# Altium integrated library TI Microcontroller MSP430 16-bit Ultra-Low Power.IntLib: 1463 symbols (part 67 of 130)
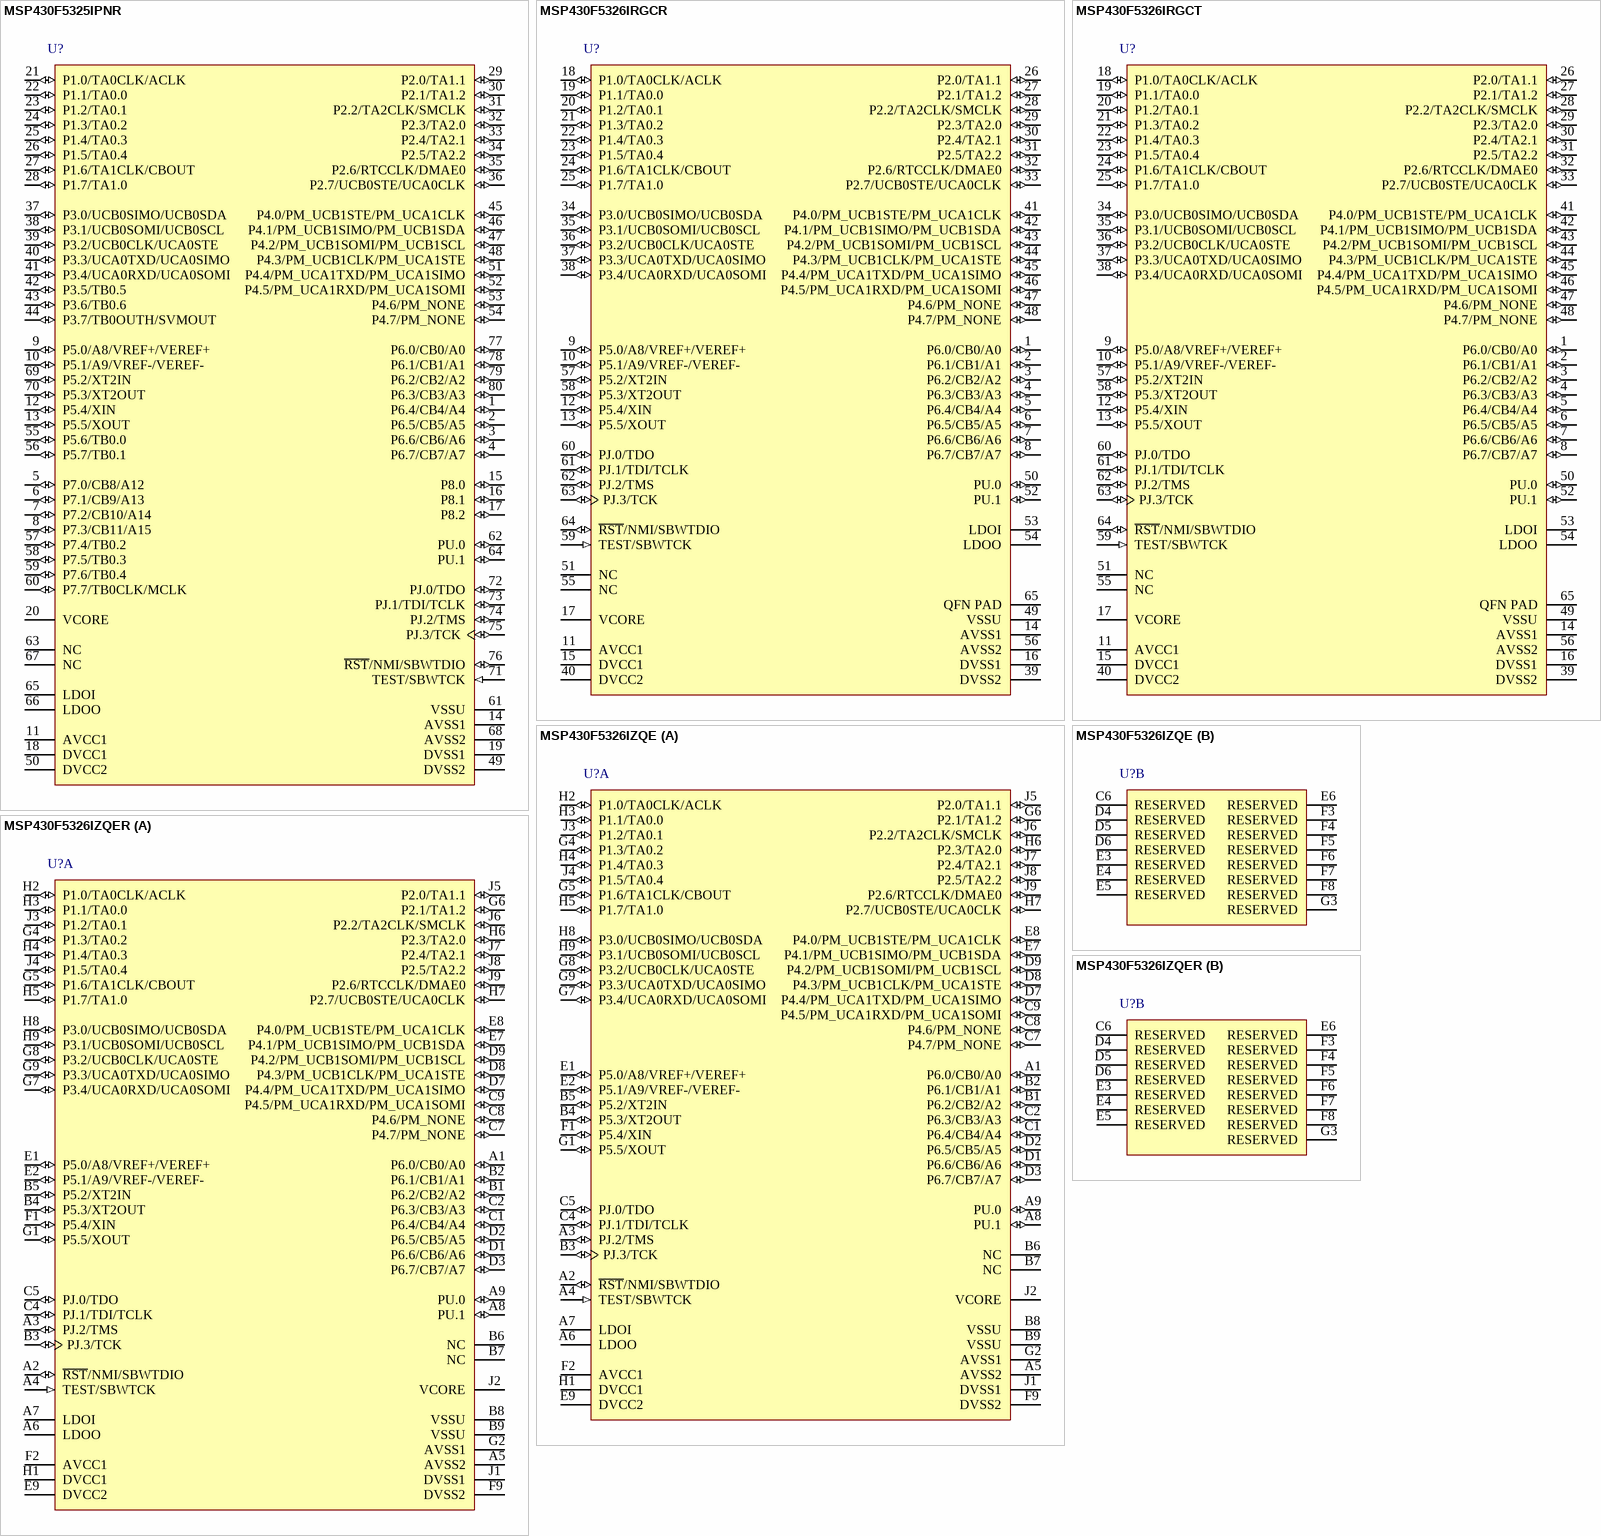
[diagram p269: symbols MSP430F5325IPNR to MSP430F5326IZQER]

## MSP430F5325IPNR
designator U?
25 MHz Mixed Signal Microcontroller with 64 KB Flash, 6144 B SRAM and 63 GPIOs, 80-pin QFP (PN), Green (RoHS & no Sb/Br); Manufacturer: Texas Instruments; PartNumber: MSP430F5325IPNR; ADC: 12-bit SAR; ADC Channels: 16; Brown Out Reset: Yes; DMA: 3; Flash(KB): 64; Frequency(MHz): 25; GPIO: 63; Multiplier: 32x32; SRAM(B): 6144; SubFamily: 5 Series; Timers - 16-bit: 4; USCI_A (UART/LIN/IrDA/SPI): 2; DatasheetVersion: SLAS678C; PackageReference: PN80; PackageDescription: 80-Pin Plastic Quad Flat Pack, Body 12 x 12 mm, Pitch 0.5 mm; Supplier 1: Digi-Key; Supplier Part Number 1: MSP430F5325IPN-ND; Supplier 2: Newark; Supplier Part Number 2: 27W9599; Supplier 3: Mouser; Supplier Part Number 3: 595-MSP430F5325IPN; Comparators: Yes; Eco-Plan: Green (RoHS & no Sb/Br); Real-Time Clock: Yes; SVS: Yes; Temp Sensor: Yes; USCI_B (I2C & SPI): 2; Watchdog: Yes; Mounting Technology: Surface Mount; Code_JEDEC: MS-018; ComponentLink1Description: Manufacturer URL; ComponentLink1URL: http://www.ti.com/; ComponentLink2Description: Datasheet; ComponentLink2URL: http://www.ti.com/general/docs/lit/getliterature.tsp?genericPartNumber=MSP430F5325&fileType=pdf; ComponentLink3Description: Package Specification; ComponentLink3URL: http://www.ti.com/lit/ml/mtqf010a/mtqf010a.pdf
footprint TI-PN80_N (QFP, 80-Leads, Body 12x12mm, Pitch 0.5mm, IPC Medium Density)
pins: 1 P6.4/CB4/A4 (io), 2 P6.5/CB5/A5 (io), 3 P6.6/CB6/A6 (io), 4 P6.7/CB7/A7 (io), 5 P7.0/CB8/A12 (io), 6 P7.1/CB9/A13 (io), 7 P7.2/CB10/A14 (io), 8 P7.3/CB11/A15 (io), 9 P5.0/A8/VREF+/VEREF+ (io), 10 P5.1/A9/VREF-/VEREF- (io), 11 AVCC1 (power) "Analog power supply", 12 P5.4/XIN (io), 13 P5.5/XOUT (io), 14 AVSS1 (power) "Analog ground supply", 15 P8.0 (io) "General-purpose digital I/O", 16 P8.1 (io) "General-purpose digital I/O", 17 P8.2 (io) "General-purpose digital I/O", 18 DVCC1 (power) "Digital power supply", 19 DVSS1 (power) "Digital ground supply", 20 VCORE "Regulated core power supply output (internal usage only, no external current loading)", 21 P1.0/TA0CLK/ACLK (io), 22 P1.1/TA0.0 (io), 23 P1.2/TA0.1 (io), 24 P1.3/TA0.2 (io), 25 P1.4/TA0.3 (io), 26 P1.5/TA0.4 (io), 27 P1.6/TA1CLK/CBOUT (io), 28 P1.7/TA1.0 (io), 29 P2.0/TA1.1 (io), 30 P2.1/TA1.2 (io), 31 P2.2/TA2CLK/SMCLK (io), 32 P2.3/TA2.0 (io), 33 P2.4/TA2.1 (io), 34 P2.5/TA2.2 (io), 35 P2.6/RTCCLK/DMAE0 (io), 36 P2.7/UCB0STE/UCA0CLK (io), 37 P3.0/UCB0SIMO/UCB0SDA (io), 38 P3.1/UCB0SOMI/UCB0SCL (io), 39 P3.2/UCB0CLK/UCA0STE (io), 40 P3.3/UCA0TXD/UCA0SIMO (io), 41 P3.4/UCA0RXD/UCA0SOMI (io), 42 P3.5/TB0.5 (io), 43 P3.6/TB0.6 (io), 44 P3.7/TB0OUTH/SVMOUT (io), 45 P4.0/PM_UCB1STE/PM_UCA1CLK (io), 46 P4.1/PM_UCB1SIMO/PM_UCB1SDA (io), 47 P4.2/PM_UCB1SOMI/PM_UCB1SCL (io), 48 P4.3/PM_UCB1CLK/PM_UCA1STE (io), 49 DVSS2 (power) "Digital ground supply", 50 DVCC2 (power) "Digital power supply", 51 P4.4/PM_UCA1TXD/PM_UCA1SIMO (io), 52 P4.5/PM_UCA1RXD/PM_UCA1SOMI (io), 53 P4.6/PM_NONE (io), 54 P4.7/PM_NONE (io), 55 P5.6/TB0.0 (io), 56 P5.7/TB0.1 (io), 57 P7.4/TB0.2 (io), 58 P7.5/TB0.3 (io), 59 P7.6/TB0.4 (io), 60 P7.7/TB0CLK/MCLK (io), 61 VSSU (power) "PU ground supply", 62 PU.0 (io) "General-purpose digital I/O - controlled by PU control register", 63 NC "No connect", 64 PU.1 (io) "General-purpose digital I/O - controlled by PU control register", 65 LDOI (power) "LDO input", 66 LDOO (power) "LDO output", 67 NC "No connect", 68 AVSS2 (power) "Analog ground supply", 69 P5.2/XT2IN (io), 70 P5.3/XT2OUT (io), 71 TEST/SBWTCK (in), 72 PJ.0/TDO (io), 73 PJ.1/TDI/TCLK (io), 74 PJ.2/TMS (io), 75 PJ.3/TCK (io), 76 ~{RST}/NMI/SBWTDIO (io), 77 P6.0/CB0/A0 (io), 78 P6.1/CB1/A1 (io), 79 P6.2/CB2/A2 (io), 80 P6.3/CB3/A3 (io)

## MSP430F5326IRGCR
designator U?
25 MHz Mixed Signal Microcontroller with 96 KB Flash, 8192 B SRAM and 48 GPIOs, 64-pin QFN (RGC), Green (RoHS & no Sb/Br); Manufacturer: Texas Instruments; PartNumber: MSP430F5326IRGCR; ADC: 12-bit SAR; ADC Channels: 16; Brown Out Reset: Yes; DMA: 3; Flash(KB): 96; Frequency(MHz): 25; GPIO: 48; Multiplier: 32x32; SRAM(B): 8192; SubFamily: 5 Series; Timers - 16-bit: 4; USCI_A (UART/LIN/IrDA/SPI): 2; DatasheetVersion: SLAS678C; PackageVersion: 4204106/F; PackageReference: RGC64; PackageDescription: 64-Pin Plastic Flat Pack, Body 9 x 9 mm, Pitch 0.5 mm; Supplier 1: Digi-Key; Supplier Part Number 1: 296-29796-2-ND; Supplier 2: Digi-Key; Supplier Part Number 2: 296-29796-1-ND; Supplier 3: Digi-Key; Supplier Part Number 3: 296-29796-6-ND; Supplier 4: Newark; Supplier Part Number 4: 71T4221; Supplier 5: Mouser; Supplier Part Number 5: 595-MSP430F5325IPNR; Comparators: Yes; Eco-Plan: Green (RoHS & no Sb/Br); Real-Time Clock: Yes; SVS: Yes; Temp Sensor: Yes; USCI_B (I2C & SPI): 2; Watchdog: Yes; Mounting Technology: Surface Mount; ComponentLink1Description: Manufacturer URL; ComponentLink1URL: http://www.ti.com/; ComponentLink2Description: Datasheet; ComponentLink2URL: http://www.ti.com/general/docs/lit/getliterature.tsp?genericPartNumber=MSP430F5326&fileType=pdf; ComponentLink3Description: Package Specification; ComponentLink3URL: http://www.ti.com/lit/ds/symlink/ucd3138.pdf
footprint TI-RGC64-4250X4250TP_N (QFN, 64-Leads, Body 9x9mm, Pitch 0.5mm, Thermal Pad 4.25x4.25mm, IPC Medium Density)
pins: 1 P6.0/CB0/A0 (io), 2 P6.1/CB1/A1 (io), 3 P6.2/CB2/A2 (io), 4 P6.3/CB3/A3 (io), 5 P6.4/CB4/A4 (io), 6 P6.5/CB5/A5 (io), 7 P6.6/CB6/A6 (io), 8 P6.7/CB7/A7 (io), 9 P5.0/A8/VREF+/VEREF+ (io), 10 P5.1/A9/VREF-/VEREF- (io), 11 AVCC1 (power) "Analog power supply", 12 P5.4/XIN (io), 13 P5.5/XOUT (io), 14 AVSS1 (power) "Analog ground supply", 15 DVCC1 (power) "Digital power supply", 16 DVSS1 (power) "Digital ground supply", 17 VCORE "Regulated core power supply output (internal use only, no external current loading)", 18 P1.0/TA0CLK/ACLK (io), 19 P1.1/TA0.0 (io), 20 P1.2/TA0.1 (io), 21 P1.3/TA0.2 (io), 22 P1.4/TA0.3 (io), 23 P1.5/TA0.4 (io), 24 P1.6/TA1CLK/CBOUT (io), 25 P1.7/TA1.0 (io), 26 P2.0/TA1.1 (io), 27 P2.1/TA1.2 (io), 28 P2.2/TA2CLK/SMCLK (io), 29 P2.3/TA2.0 (io), 30 P2.4/TA2.1 (io), 31 P2.5/TA2.2 (io), 32 P2.6/RTCCLK/DMAE0 (io), 33 P2.7/UCB0STE/UCA0CLK (io), 34 P3.0/UCB0SIMO/UCB0SDA (io), 35 P3.1/UCB0SOMI/UCB0SCL (io), 36 P3.2/UCB0CLK/UCA0STE (io), 37 P3.3/UCA0TXD/UCA0SIMO (io), 38 P3.4/UCA0RXD/UCA0SOMI (io), 39 DVSS2 (power) "Digital ground supply", 40 DVCC2 (power) "Digital power supply", 41 P4.0/PM_UCB1STE/PM_UCA1CLK (io), 42 P4.1/PM_UCB1SIMO/PM_UCB1SDA (io), 43 P4.2/PM_UCB1SOMI/PM_UCB1SCL (io), 44 P4.3/PM_UCB1CLK/PM_UCA1STE (io), 45 P4.4/PM_UCA1TXD/PM_UCA1SIMO (io), 46 P4.5/PM_UCA1RXD/PM_UCA1SOMI (io), 47 P4.6/PM_NONE (io), 48 P4.7/PM_NONE (io), 49 VSSU (power) "USB PHY ground supply", 50 PU.0 (io) "General-purpose digital I/O - controlled by PU control register", 51 NC "No connect.", 52 PU.1 (io) "General-purpose digital I/O - controlled by PU control register", 53 LDOI (power) "LDO input", 54 LDOO (power) "LDO output", 55 NC "No connect.", 56 AVSS2 (power) "Analog ground supply", 57 P5.2/XT2IN (io), 58 P5.3/XT2OUT (io), 59 TEST/SBWTCK (in), 60 PJ.0/TDO (io), 61 PJ.1/TDI/TCLK (io), 62 PJ.2/TMS (io), 63 PJ.3/TCK (io), 64 ~{RST}/NMI/SBWTDIO (io), 65 QFN PAD (power) "QFN package pad connection to VSS recommended"

## MSP430F5326IRGCT
designator U?
25 MHz Mixed Signal Microcontroller with 96 KB Flash, 8192 B SRAM and 48 GPIOs, 64-pin QFN (RGC), Green (RoHS & no Sb/Br); Manufacturer: Texas Instruments; PartNumber: MSP430F5326IRGCT; ADC: 12-bit SAR; ADC Channels: 16; Brown Out Reset: Yes; DMA: 3; Flash(KB): 96; Frequency(MHz): 25; GPIO: 48; Multiplier: 32x32; SRAM(B): 8192; SubFamily: 5 Series; Timers - 16-bit: 4; USCI_A (UART/LIN/IrDA/SPI): 2; DatasheetVersion: SLAS678C; PackageVersion: 4204106/F; PackageReference: RGC64; PackageDescription: 64-Pin Plastic Flat Pack, Body 9 x 9 mm, Pitch 0.5 mm; Supplier 1: Digi-Key; Supplier Part Number 1: 296-29797-2-ND; Supplier 2: Digi-Key; Supplier Part Number 2: 296-29797-1-ND; Supplier 3: Digi-Key; Supplier Part Number 3: 296-29797-6-ND; Supplier 4: Newark; Supplier Part Number 4: 71T4222; Supplier 5: Mouser; Supplier Part Number 5: 595-MSP430F5326IRGCR; Comparators: Yes; Eco-Plan: Green (RoHS & no Sb/Br); Real-Time Clock: Yes; SVS: Yes; Temp Sensor: Yes; USCI_B (I2C & SPI): 2; Watchdog: Yes; Mounting Technology: Surface Mount; ComponentLink1Description: Manufacturer URL; ComponentLink1URL: http://www.ti.com/; ComponentLink2Description: Datasheet; ComponentLink2URL: http://www.ti.com/general/docs/lit/getliterature.tsp?genericPartNumber=MSP430F5326&fileType=pdf; ComponentLink3Description: Package Specification; ComponentLink3URL: http://www.ti.com/lit/ds/symlink/ucd3138.pdf
footprint TI-RGC64-4250X4250TP_N (QFN, 64-Leads, Body 9x9mm, Pitch 0.5mm, Thermal Pad 4.25x4.25mm, IPC Medium Density)
pins: 1 P6.0/CB0/A0 (io), 2 P6.1/CB1/A1 (io), 3 P6.2/CB2/A2 (io), 4 P6.3/CB3/A3 (io), 5 P6.4/CB4/A4 (io), 6 P6.5/CB5/A5 (io), 7 P6.6/CB6/A6 (io), 8 P6.7/CB7/A7 (io), 9 P5.0/A8/VREF+/VEREF+ (io), 10 P5.1/A9/VREF-/VEREF- (io), 11 AVCC1 (power) "Analog power supply", 12 P5.4/XIN (io), 13 P5.5/XOUT (io), 14 AVSS1 (power) "Analog ground supply", 15 DVCC1 (power) "Digital power supply", 16 DVSS1 (power) "Digital ground supply", 17 VCORE "Regulated core power supply output (internal use only, no external current loading)", 18 P1.0/TA0CLK/ACLK (io), 19 P1.1/TA0.0 (io), 20 P1.2/TA0.1 (io), 21 P1.3/TA0.2 (io), 22 P1.4/TA0.3 (io), 23 P1.5/TA0.4 (io), 24 P1.6/TA1CLK/CBOUT (io), 25 P1.7/TA1.0 (io), 26 P2.0/TA1.1 (io), 27 P2.1/TA1.2 (io), 28 P2.2/TA2CLK/SMCLK (io), 29 P2.3/TA2.0 (io), 30 P2.4/TA2.1 (io), 31 P2.5/TA2.2 (io), 32 P2.6/RTCCLK/DMAE0 (io), 33 P2.7/UCB0STE/UCA0CLK (io), 34 P3.0/UCB0SIMO/UCB0SDA (io), 35 P3.1/UCB0SOMI/UCB0SCL (io), 36 P3.2/UCB0CLK/UCA0STE (io), 37 P3.3/UCA0TXD/UCA0SIMO (io), 38 P3.4/UCA0RXD/UCA0SOMI (io), 39 DVSS2 (power) "Digital ground supply", 40 DVCC2 (power) "Digital power supply", 41 P4.0/PM_UCB1STE/PM_UCA1CLK (io), 42 P4.1/PM_UCB1SIMO/PM_UCB1SDA (io), 43 P4.2/PM_UCB1SOMI/PM_UCB1SCL (io), 44 P4.3/PM_UCB1CLK/PM_UCA1STE (io), 45 P4.4/PM_UCA1TXD/PM_UCA1SIMO (io), 46 P4.5/PM_UCA1RXD/PM_UCA1SOMI (io), 47 P4.6/PM_NONE (io), 48 P4.7/PM_NONE (io), 49 VSSU (power) "USB PHY ground supply", 50 PU.0 (io) "General-purpose digital I/O - controlled by PU control register", 51 NC "No connect.", 52 PU.1 (io) "General-purpose digital I/O - controlled by PU control register", 53 LDOI (power) "LDO input", 54 LDOO (power) "LDO output", 55 NC "No connect.", 56 AVSS2 (power) "Analog ground supply", 57 P5.2/XT2IN (io), 58 P5.3/XT2OUT (io), 59 TEST/SBWTCK (in), 60 PJ.0/TDO (io), 61 PJ.1/TDI/TCLK (io), 62 PJ.2/TMS (io), 63 PJ.3/TCK (io), 64 ~{RST}/NMI/SBWTDIO (io), 65 QFN PAD (power) "QFN package pad connection to VSS recommended"

## MSP430F5326IZQE
designator U?
25 MHz Mixed Signal Microcontroller with 96 KB Flash, 8192 B SRAM and 48 GPIOs, -40 to 85 degC, 80-pin BGA (ZQE), Green (RoHS & no Sb/Br); Manufacturer: Texas Instruments; PartNumber: MSP430F5326IZQE; ADC: 12-bit SAR; ADC Channels: 16; Brown Out Reset: Yes; DMA: 3; Flash(KB): 96; Frequency(MHz): 25; GPIO: 48; Multiplier: 32x32; SRAM(B): 8192; SubFamily: 5 Series; Timers - 16-bit: 4; USCI_A (UART/LIN/IrDA/SPI): 2; DatasheetVersion: SLAS678C; PackageVersion: 4204334-6/G; PackageReference: ZQE80; PackageDescription: 80-Pin Plastic Ball Grid Array, Body 5 x 5 mm, Pitch 0.5 mm; Supplier 1: Mouser; Supplier Part Number 1: N/A; Comparators: Yes; Eco-Plan: Green (RoHS & no Sb/Br); Real-Time Clock: Yes; SVS: Yes; Temp Sensor: Yes; USCI_B (I2C & SPI): 2; Watchdog: Yes; Mounting Technology: Surface Mount; Code_JEDEC: MO-225; ComponentLink1Description: Manufacturer URL; ComponentLink1URL: http://www.ti.com/; ComponentLink2Description: Datasheet; ComponentLink2URL: http://www.ti.com/general/docs/lit/getliterature.tsp?genericPartNumber=MSP430F5326&fileType=pdf; ComponentLink3Description: Package Specification; ComponentLink3URL: http://www.ti.com/litv/pdf/mpbg269e
footprint TI-ZQE80 (BGA, 80-Balls, Body 5x5mm, Pitch 0.5mm)
part A pins: A1 P6.0/CB0/A0 (io), A2 ~{RST}/NMI/SBWTDIO (io), A3 PJ.2/TMS (io), A4 TEST/SBWTCK (in), A5 AVSS2 (power) "Analog ground supply", A6 LDOO (power) "LDO output", A7 LDOI (power) "LDO input", A8 PU.1 (io) "General-purpose digital I/O - controlled by PU control register", A9 PU.0 (io) "General-purpose digital I/O - controlled by PU control register", B1 P6.2/CB2/A2 (io), B2 P6.1/CB1/A1 (io), B3 PJ.3/TCK (io), B4 P5.3/XT2OUT (io), B5 P5.2/XT2IN (io), B6 NC "No connect", B7 NC "No connect", B8 VSSU (power) "PU ground supply", B9 VSSU (power) "PU ground supply", C1 P6.4/CB4/A4 (io), C2 P6.3/CB3/A3 (io), C4 PJ.1/TDI/TCLK (io), C5 PJ.0/TDO (io), C7 P4.7/PM_NONE (io), C8 P4.6/PM_NONE (io), C9 P4.5/PM_UCA1RXD/PM_UCA1SOMI (io), D1 P6.6/CB6/A6 (io), D2 P6.5/CB5/A5 (io), D3 P6.7/CB7/A7 (io), D7 P4.4/PM_UCA1TXD/PM_UCA1SIMO (io), D8 P4.3/PM_UCB1CLK/PM_UCA1STE (io), D9 P4.2/PM_UCB1SOMI/PM_UCB1SCL (io), E1 P5.0/A8/VREF+/VEREF+ (io), E2 P5.1/A9/VREF-/VEREF- (io), E7 P4.1/PM_UCB1SIMO/PM_UCB1SDA (io), E8 P4.0/PM_UCB1STE/PM_UCA1CLK (io), E9 DVCC2 (power) "Digital power supply", F1 P5.4/XIN (io), F2 AVCC1 (power) "Analog power supply", F9 DVSS2 (power) "Digital ground supply", G1 P5.5/XOUT (io), G2 AVSS1 (power) "Analog ground supply", G4 P1.3/TA0.2 (io), G5 P1.6/TA1CLK/CBOUT (io), G6 P2.1/TA1.2 (io), G7 P3.4/UCA0RXD/UCA0SOMI (io), G8 P3.2/UCB0CLK/UCA0STE (io), G9 P3.3/UCA0TXD/UCA0SIMO (io), H1 DVCC1 (power) "Digital power supply", H2 P1.0/TA0CLK/ACLK (io), H3 P1.1/TA0.0 (io), H4 P1.4/TA0.3 (io), H5 P1.7/TA1.0 (io), H6 P2.3/TA2.0 (io), H7 P2.7/UCB0STE/UCA0CLK (io), H8 P3.0/UCB0SIMO/UCB0SDA (io), H9 P3.1/UCB0SOMI/UCB0SCL (io), J1 DVSS1 (power) "Digital ground supply", J2 VCORE "Regulated core power supply output (internal usage only, no external current loading)", J3 P1.2/TA0.1 (io), J4 P1.5/TA0.4 (io), J5 P2.0/TA1.1 (io), J6 P2.2/TA2CLK/SMCLK (io), J7 P2.4/TA2.1 (io), J8 P2.5/TA2.2 (io), J9 P2.6/RTCCLK/DMAE0 (io)
part B pins: C6 RESERVED "should be connected to ground.", D4 RESERVED "should be connected to ground.", D5 RESERVED "should be connected to ground.", D6 RESERVED "should be connected to ground.", E3 RESERVED "should be connected to ground.", E4 RESERVED "should be connected to ground.", E5 RESERVED "should be connected to ground.", E6 RESERVED "should be connected to ground.", F3 RESERVED "should be connected to ground.", F4 RESERVED "should be connected to ground.", F5 RESERVED "should be connected to ground.", F6 RESERVED "should be connected to ground.", F7 RESERVED "should be connected to ground.", F8 RESERVED "should be connected to ground.", G3 RESERVED "should be connected to ground."

## MSP430F5326IZQER
designator U?
25 MHz Mixed Signal Microcontroller with 96 KB Flash, 8192 B SRAM and 48 GPIOs, 80-pin BGA (ZQE), Green (RoHS & no Sb/Br); Manufacturer: Texas Instruments; PartNumber: MSP430F5326IZQER; ADC: 12-bit SAR; ADC Channels: 16; Brown Out Reset: Yes; DMA: 3; Flash(KB): 96; Frequency(MHz): 25; GPIO: 48; Multiplier: 32x32; SRAM(B): 8192; SubFamily: 5 Series; Timers - 16-bit: 4; USCI_A (UART/LIN/IrDA/SPI): 2; DatasheetVersion: SLAS678C; PackageVersion: 4204334-6/G; PackageReference: ZQE80; PackageDescription: 80-Pin Plastic Ball Grid Array, Body 5 x 5 mm, Pitch 0.5 mm; Supplier 1: Mouser; Supplier Part Number 1: N/A; Comparators: Yes; Eco-Plan: Green (RoHS & no Sb/Br); Real-Time Clock: Yes; SVS: Yes; Temp Sensor: Yes; USCI_B (I2C & SPI): 2; Watchdog: Yes; Mounting Technology: Surface Mount; Code_JEDEC: MO-225; ComponentLink1Description: Manufacturer URL; ComponentLink1URL: http://www.ti.com/; ComponentLink2Description: Datasheet; ComponentLink2URL: http://www.ti.com/general/docs/lit/getliterature.tsp?genericPartNumber=MSP430F5326&fileType=pdf; ComponentLink3Description: Package Specification; ComponentLink3URL: http://www.ti.com/litv/pdf/mpbg269e
footprint TI-ZQE80 (BGA, 80-Balls, Body 5x5mm, Pitch 0.5mm)
part A pins: A1 P6.0/CB0/A0 (io), A2 ~{RST}/NMI/SBWTDIO (io), A3 PJ.2/TMS (io), A4 TEST/SBWTCK (in), A5 AVSS2 (power) "Analog ground supply", A6 LDOO (power) "LDO output", A7 LDOI (power) "LDO input", A8 PU.1 (io) "General-purpose digital I/O - controlled by PU control register", A9 PU.0 (io) "General-purpose digital I/O - controlled by PU control register", B1 P6.2/CB2/A2 (io), B2 P6.1/CB1/A1 (io), B3 PJ.3/TCK (io), B4 P5.3/XT2OUT (io), B5 P5.2/XT2IN (io), B6 NC "No connect", B7 NC "No connect", B8 VSSU (power) "PU ground supply", B9 VSSU (power) "PU ground supply", C1 P6.4/CB4/A4 (io), C2 P6.3/CB3/A3 (io), C4 PJ.1/TDI/TCLK (io), C5 PJ.0/TDO (io), C7 P4.7/PM_NONE (io), C8 P4.6/PM_NONE (io), C9 P4.5/PM_UCA1RXD/PM_UCA1SOMI (io), D1 P6.6/CB6/A6 (io), D2 P6.5/CB5/A5 (io), D3 P6.7/CB7/A7 (io), D7 P4.4/PM_UCA1TXD/PM_UCA1SIMO (io), D8 P4.3/PM_UCB1CLK/PM_UCA1STE (io), D9 P4.2/PM_UCB1SOMI/PM_UCB1SCL (io), E1 P5.0/A8/VREF+/VEREF+ (io), E2 P5.1/A9/VREF-/VEREF- (io), E7 P4.1/PM_UCB1SIMO/PM_UCB1SDA (io), E8 P4.0/PM_UCB1STE/PM_UCA1CLK (io), E9 DVCC2 (power) "Digital power supply", F1 P5.4/XIN (io), F2 AVCC1 (power) "Analog power supply", F9 DVSS2 (power) "Digital ground supply", G1 P5.5/XOUT (io), G2 AVSS1 (power) "Analog ground supply", G4 P1.3/TA0.2 (io), G5 P1.6/TA1CLK/CBOUT (io), G6 P2.1/TA1.2 (io), G7 P3.4/UCA0RXD/UCA0SOMI (io), G8 P3.2/UCB0CLK/UCA0STE (io), G9 P3.3/UCA0TXD/UCA0SIMO (io), H1 DVCC1 (power) "Digital power supply", H2 P1.0/TA0CLK/ACLK (io), H3 P1.1/TA0.0 (io), H4 P1.4/TA0.3 (io), H5 P1.7/TA1.0 (io), H6 P2.3/TA2.0 (io), H7 P2.7/UCB0STE/UCA0CLK (io), H8 P3.0/UCB0SIMO/UCB0SDA (io), H9 P3.1/UCB0SOMI/UCB0SCL (io), J1 DVSS1 (power) "Digital ground supply", J2 VCORE "Regulated core power supply output (internal usage only, no external current loading)", J3 P1.2/TA0.1 (io), J4 P1.5/TA0.4 (io), J5 P2.0/TA1.1 (io), J6 P2.2/TA2CLK/SMCLK (io), J7 P2.4/TA2.1 (io), J8 P2.5/TA2.2 (io), J9 P2.6/RTCCLK/DMAE0 (io)
part B pins: C6 RESERVED "should be connected to ground.", D4 RESERVED "should be connected to ground.", D5 RESERVED "should be connected to ground.", D6 RESERVED "should be connected to ground.", E3 RESERVED "should be connected to ground.", E4 RESERVED "should be connected to ground.", E5 RESERVED "should be connected to ground.", E6 RESERVED "should be connected to ground.", F3 RESERVED "should be connected to ground.", F4 RESERVED "should be connected to ground.", F5 RESERVED "should be connected to ground.", F6 RESERVED "should be connected to ground.", F7 RESERVED "should be connected to ground.", F8 RESERVED "should be connected to ground.", G3 RESERVED "should be connected to ground."

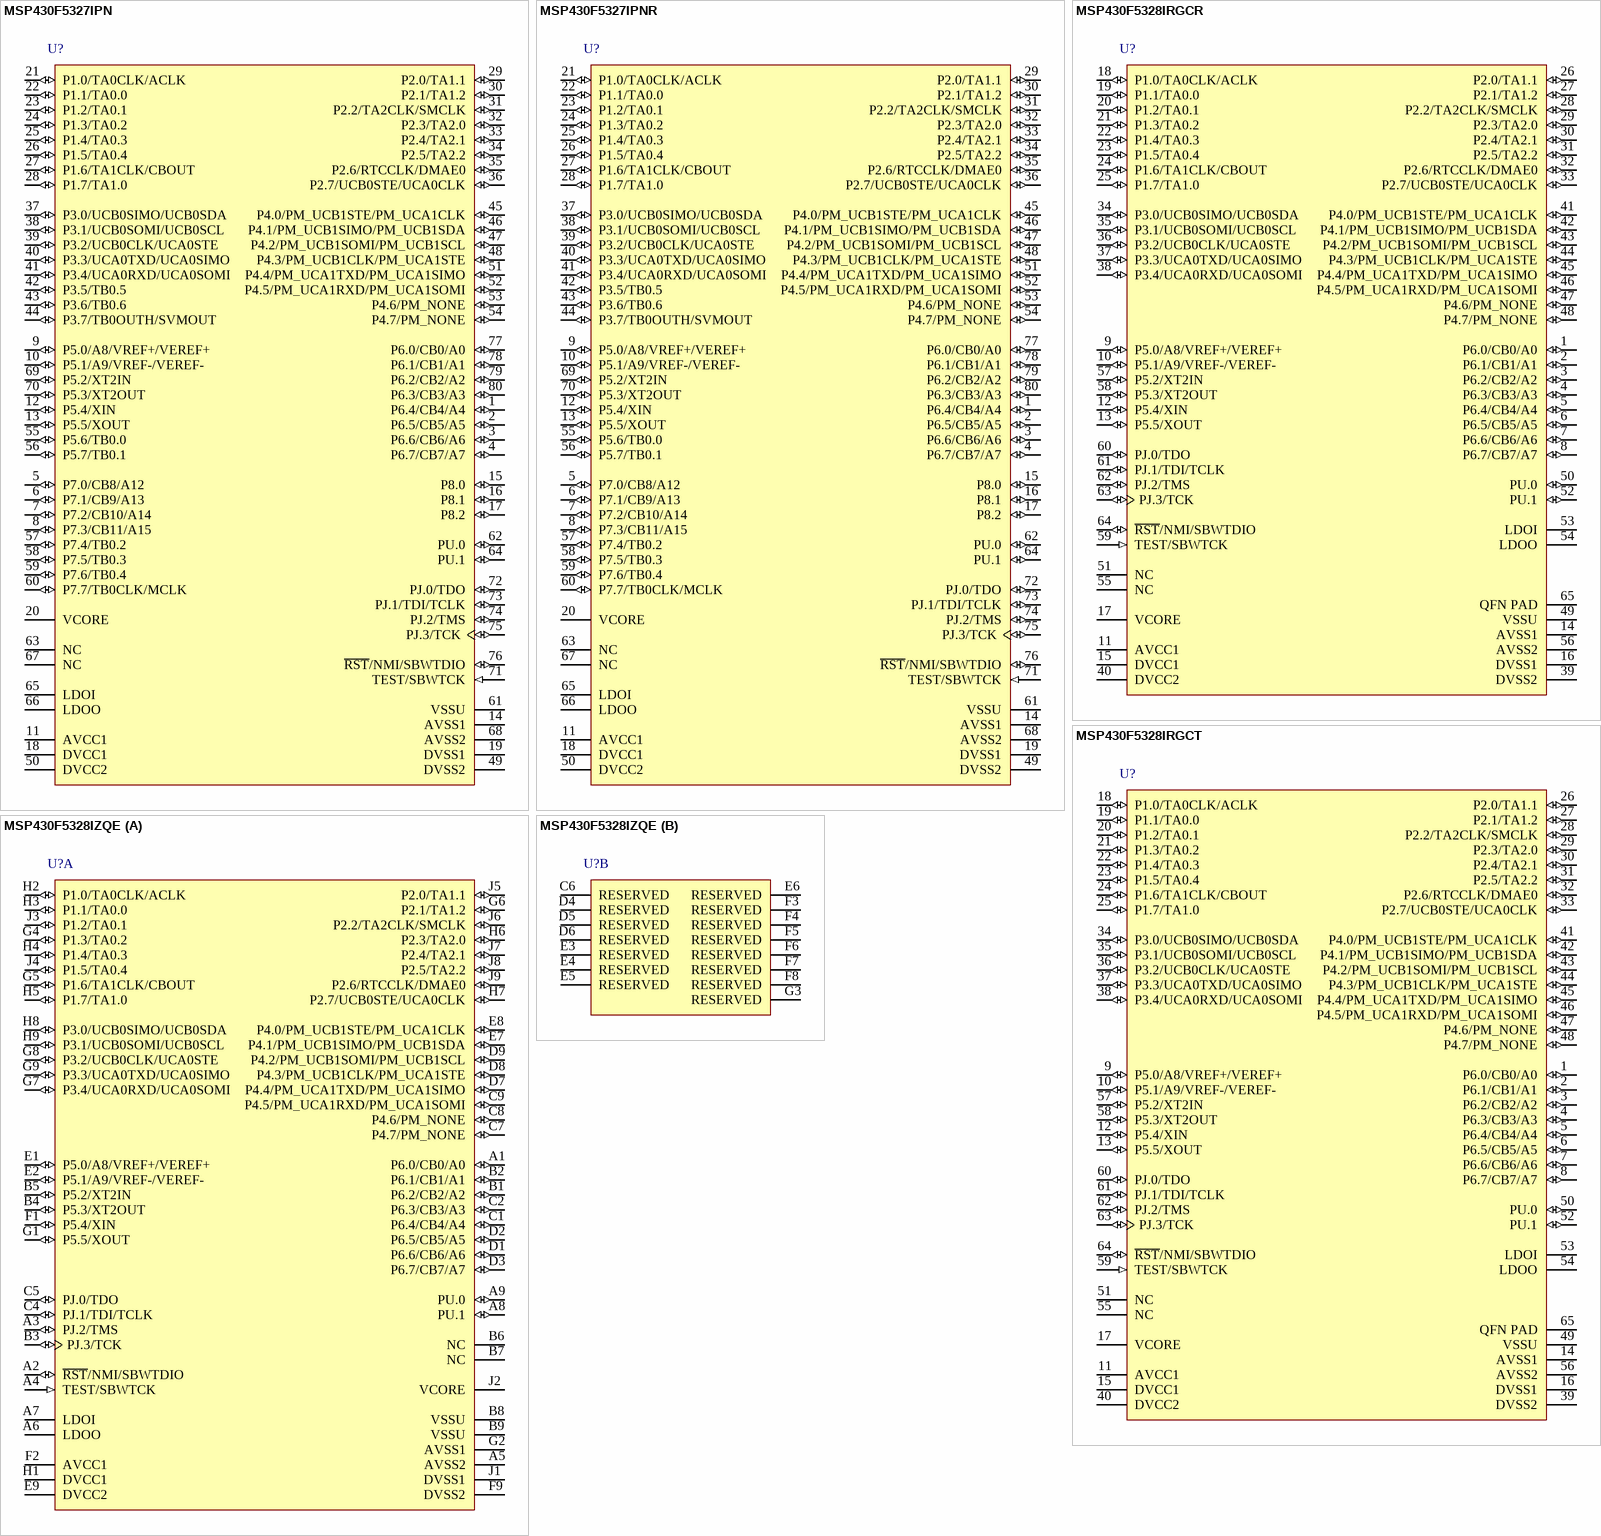
[diagram p100: symbols MSP430F5327IPN to MSP430F5328IZQE]

## MSP430F5327IPN
designator U?
25 MHz Mixed Signal Microcontroller with 96 KB Flash, 8192 B SRAM and 63 GPIOs, -40 to 85 degC, 80-pin QFP (PN), Green (RoHS & no Sb/Br); Manufacturer: Texas Instruments; PartNumber: MSP430F5327IPN; ADC: 12-bit SAR; ADC Channels: 16; Brown Out Reset: Yes; DMA: 3; Flash(KB): 96; Frequency(MHz): 25; GPIO: 63; Multiplier: 32x32; SRAM(B): 8192; SubFamily: 5 Series; Timers - 16-bit: 4; USCI_A (UART/LIN/IrDA/SPI): 2; DatasheetVersion: SLAS678C; PackageReference: PN80; PackageDescription: 80-Pin Plastic Quad Flat Pack, Body 12 x 12 mm, Pitch 0.5 mm; Supplier 1: Digi-Key; Supplier Part Number 1: 296-29798-2-ND; Supplier 2: Digi-Key; Supplier Part Number 2: 296-29798-1-ND; Supplier 3: Digi-Key; Supplier Part Number 3: 296-29798-6-ND; Supplier 4: Mouser; Supplier Part Number 4: 595-MSP430F5326IZQER; Comparators: Yes; Eco-Plan: Green (RoHS & no Sb/Br); Real-Time Clock: Yes; SVS: Yes; Temp Sensor: Yes; USCI_B (I2C & SPI): 2; Watchdog: Yes; Mounting Technology: Surface Mount; Code_JEDEC: MS-018; ComponentLink1Description: Manufacturer URL; ComponentLink1URL: http://www.ti.com/; ComponentLink2Description: Datasheet; ComponentLink2URL: http://www.ti.com/general/docs/lit/getliterature.tsp?genericPartNumber=MSP430F5327&fileType=pdf; ComponentLink3Description: Package Specification; ComponentLink3URL: http://www.ti.com/lit/ml/mtqf010a/mtqf010a.pdf
footprint TI-PN80_N (QFP, 80-Leads, Body 12x12mm, Pitch 0.5mm, IPC Medium Density)
pins: 1 P6.4/CB4/A4 (io), 2 P6.5/CB5/A5 (io), 3 P6.6/CB6/A6 (io), 4 P6.7/CB7/A7 (io), 5 P7.0/CB8/A12 (io), 6 P7.1/CB9/A13 (io), 7 P7.2/CB10/A14 (io), 8 P7.3/CB11/A15 (io), 9 P5.0/A8/VREF+/VEREF+ (io), 10 P5.1/A9/VREF-/VEREF- (io), 11 AVCC1 (power) "Analog power supply", 12 P5.4/XIN (io), 13 P5.5/XOUT (io), 14 AVSS1 (power) "Analog ground supply", 15 P8.0 (io) "General-purpose digital I/O", 16 P8.1 (io) "General-purpose digital I/O", 17 P8.2 (io) "General-purpose digital I/O", 18 DVCC1 (power) "Digital power supply", 19 DVSS1 (power) "Digital ground supply", 20 VCORE "Regulated core power supply output (internal usage only, no external current loading)", 21 P1.0/TA0CLK/ACLK (io), 22 P1.1/TA0.0 (io), 23 P1.2/TA0.1 (io), 24 P1.3/TA0.2 (io), 25 P1.4/TA0.3 (io), 26 P1.5/TA0.4 (io), 27 P1.6/TA1CLK/CBOUT (io), 28 P1.7/TA1.0 (io), 29 P2.0/TA1.1 (io), 30 P2.1/TA1.2 (io), 31 P2.2/TA2CLK/SMCLK (io), 32 P2.3/TA2.0 (io), 33 P2.4/TA2.1 (io), 34 P2.5/TA2.2 (io), 35 P2.6/RTCCLK/DMAE0 (io), 36 P2.7/UCB0STE/UCA0CLK (io), 37 P3.0/UCB0SIMO/UCB0SDA (io), 38 P3.1/UCB0SOMI/UCB0SCL (io), 39 P3.2/UCB0CLK/UCA0STE (io), 40 P3.3/UCA0TXD/UCA0SIMO (io), 41 P3.4/UCA0RXD/UCA0SOMI (io), 42 P3.5/TB0.5 (io), 43 P3.6/TB0.6 (io), 44 P3.7/TB0OUTH/SVMOUT (io), 45 P4.0/PM_UCB1STE/PM_UCA1CLK (io), 46 P4.1/PM_UCB1SIMO/PM_UCB1SDA (io), 47 P4.2/PM_UCB1SOMI/PM_UCB1SCL (io), 48 P4.3/PM_UCB1CLK/PM_UCA1STE (io), 49 DVSS2 (power) "Digital ground supply", 50 DVCC2 (power) "Digital power supply", 51 P4.4/PM_UCA1TXD/PM_UCA1SIMO (io), 52 P4.5/PM_UCA1RXD/PM_UCA1SOMI (io), 53 P4.6/PM_NONE (io), 54 P4.7/PM_NONE (io), 55 P5.6/TB0.0 (io), 56 P5.7/TB0.1 (io), 57 P7.4/TB0.2 (io), 58 P7.5/TB0.3 (io), 59 P7.6/TB0.4 (io), 60 P7.7/TB0CLK/MCLK (io), 61 VSSU (power) "PU ground supply", 62 PU.0 (io) "General-purpose digital I/O - controlled by PU control register", 63 NC "No connect", 64 PU.1 (io) "General-purpose digital I/O - controlled by PU control register", 65 LDOI (power) "LDO input", 66 LDOO (power) "LDO output", 67 NC "No connect", 68 AVSS2 (power) "Analog ground supply", 69 P5.2/XT2IN (io), 70 P5.3/XT2OUT (io), 71 TEST/SBWTCK (in), 72 PJ.0/TDO (io), 73 PJ.1/TDI/TCLK (io), 74 PJ.2/TMS (io), 75 PJ.3/TCK (io), 76 ~{RST}/NMI/SBWTDIO (io), 77 P6.0/CB0/A0 (io), 78 P6.1/CB1/A1 (io), 79 P6.2/CB2/A2 (io), 80 P6.3/CB3/A3 (io)

## MSP430F5327IPNR
designator U?
25 MHz Mixed Signal Microcontroller with 96 KB Flash, 8192 B SRAM and 63 GPIOs, 80-pin QFP (PN), Green (RoHS & no Sb/Br); Manufacturer: Texas Instruments; PartNumber: MSP430F5327IPNR; ADC: 12-bit SAR; ADC Channels: 16; Brown Out Reset: Yes; DMA: 3; Flash(KB): 96; Frequency(MHz): 25; GPIO: 63; Multiplier: 32x32; SRAM(B): 8192; SubFamily: 5 Series; Timers - 16-bit: 4; USCI_A (UART/LIN/IrDA/SPI): 2; DatasheetVersion: SLAS678C; PackageReference: PN80; PackageDescription: 80-Pin Plastic Quad Flat Pack, Body 12 x 12 mm, Pitch 0.5 mm; Supplier 1: Mouser; Supplier Part Number 1: N/A; Comparators: Yes; Eco-Plan: Green (RoHS & no Sb/Br); Real-Time Clock: Yes; SVS: Yes; Temp Sensor: Yes; USCI_B (I2C & SPI): 2; Watchdog: Yes; Mounting Technology: Surface Mount; Code_JEDEC: MS-018; ComponentLink1Description: Manufacturer URL; ComponentLink1URL: http://www.ti.com/; ComponentLink2Description: Datasheet; ComponentLink2URL: http://www.ti.com/general/docs/lit/getliterature.tsp?genericPartNumber=MSP430F5327&fileType=pdf; ComponentLink3Description: Package Specification; ComponentLink3URL: http://www.ti.com/lit/ml/mtqf010a/mtqf010a.pdf
footprint TI-PN80_N (QFP, 80-Leads, Body 12x12mm, Pitch 0.5mm, IPC Medium Density)
pins: 1 P6.4/CB4/A4 (io), 2 P6.5/CB5/A5 (io), 3 P6.6/CB6/A6 (io), 4 P6.7/CB7/A7 (io), 5 P7.0/CB8/A12 (io), 6 P7.1/CB9/A13 (io), 7 P7.2/CB10/A14 (io), 8 P7.3/CB11/A15 (io), 9 P5.0/A8/VREF+/VEREF+ (io), 10 P5.1/A9/VREF-/VEREF- (io), 11 AVCC1 (power) "Analog power supply", 12 P5.4/XIN (io), 13 P5.5/XOUT (io), 14 AVSS1 (power) "Analog ground supply", 15 P8.0 (io) "General-purpose digital I/O", 16 P8.1 (io) "General-purpose digital I/O", 17 P8.2 (io) "General-purpose digital I/O", 18 DVCC1 (power) "Digital power supply", 19 DVSS1 (power) "Digital ground supply", 20 VCORE "Regulated core power supply output (internal usage only, no external current loading)", 21 P1.0/TA0CLK/ACLK (io), 22 P1.1/TA0.0 (io), 23 P1.2/TA0.1 (io), 24 P1.3/TA0.2 (io), 25 P1.4/TA0.3 (io), 26 P1.5/TA0.4 (io), 27 P1.6/TA1CLK/CBOUT (io), 28 P1.7/TA1.0 (io), 29 P2.0/TA1.1 (io), 30 P2.1/TA1.2 (io), 31 P2.2/TA2CLK/SMCLK (io), 32 P2.3/TA2.0 (io), 33 P2.4/TA2.1 (io), 34 P2.5/TA2.2 (io), 35 P2.6/RTCCLK/DMAE0 (io), 36 P2.7/UCB0STE/UCA0CLK (io), 37 P3.0/UCB0SIMO/UCB0SDA (io), 38 P3.1/UCB0SOMI/UCB0SCL (io), 39 P3.2/UCB0CLK/UCA0STE (io), 40 P3.3/UCA0TXD/UCA0SIMO (io), 41 P3.4/UCA0RXD/UCA0SOMI (io), 42 P3.5/TB0.5 (io), 43 P3.6/TB0.6 (io), 44 P3.7/TB0OUTH/SVMOUT (io), 45 P4.0/PM_UCB1STE/PM_UCA1CLK (io), 46 P4.1/PM_UCB1SIMO/PM_UCB1SDA (io), 47 P4.2/PM_UCB1SOMI/PM_UCB1SCL (io), 48 P4.3/PM_UCB1CLK/PM_UCA1STE (io), 49 DVSS2 (power) "Digital ground supply", 50 DVCC2 (power) "Digital power supply", 51 P4.4/PM_UCA1TXD/PM_UCA1SIMO (io), 52 P4.5/PM_UCA1RXD/PM_UCA1SOMI (io), 53 P4.6/PM_NONE (io), 54 P4.7/PM_NONE (io), 55 P5.6/TB0.0 (io), 56 P5.7/TB0.1 (io), 57 P7.4/TB0.2 (io), 58 P7.5/TB0.3 (io), 59 P7.6/TB0.4 (io), 60 P7.7/TB0CLK/MCLK (io), 61 VSSU (power) "PU ground supply", 62 PU.0 (io) "General-purpose digital I/O - controlled by PU control register", 63 NC "No connect", 64 PU.1 (io) "General-purpose digital I/O - controlled by PU control register", 65 LDOI (power) "LDO input", 66 LDOO (power) "LDO output", 67 NC "No connect", 68 AVSS2 (power) "Analog ground supply", 69 P5.2/XT2IN (io), 70 P5.3/XT2OUT (io), 71 TEST/SBWTCK (in), 72 PJ.0/TDO (io), 73 PJ.1/TDI/TCLK (io), 74 PJ.2/TMS (io), 75 PJ.3/TCK (io), 76 ~{RST}/NMI/SBWTDIO (io), 77 P6.0/CB0/A0 (io), 78 P6.1/CB1/A1 (io), 79 P6.2/CB2/A2 (io), 80 P6.3/CB3/A3 (io)

## MSP430F5328IRGCR
designator U?
25 MHz Mixed Signal Microcontroller with 128 KB Flash, 10240 B SRAM and 48 GPIOs, 64-pin QFN (RGC), Green (RoHS & no Sb/Br); Manufacturer: Texas Instruments; PartNumber: MSP430F5328IRGCR; ADC: 12-bit SAR; ADC Channels: 16; Brown Out Reset: Yes; DMA: 3; Flash(KB): 128; Frequency(MHz): 25; GPIO: 48; Multiplier: 32x32; SRAM(B): 10240; SubFamily: 5 Series; Timers - 16-bit: 4; USCI_A (UART/LIN/IrDA/SPI): 2; DatasheetVersion: SLAS678C; PackageVersion: 4204106/F; PackageReference: RGC64; PackageDescription: 64-Pin Plastic Flat Pack, Body 9 x 9 mm, Pitch 0.5 mm; Supplier 1: Digi-Key; Supplier Part Number 1: 296-29799-2-ND; Supplier 2: Digi-Key; Supplier Part Number 2: 296-29799-1-ND; Supplier 3: Digi-Key; Supplier Part Number 3: 296-29799-6-ND; Supplier 4: Newark; Supplier Part Number 4: 71T4224; Supplier 5: Mouser; Supplier Part Number 5: 595-MSP430F5327IPNR; Comparators: Yes; Eco-Plan: Green (RoHS & no Sb/Br); Real-Time Clock: Yes; SVS: Yes; Temp Sensor: Yes; USCI_B (I2C & SPI): 2; Watchdog: Yes; Mounting Technology: Surface Mount; ComponentLink1Description: Manufacturer URL; ComponentLink1URL: http://www.ti.com/; ComponentLink2Description: Datasheet; ComponentLink2URL: http://www.ti.com/general/docs/lit/getliterature.tsp?genericPartNumber=MSP430F5328&fileType=pdf; ComponentLink3Description: Package Specification; ComponentLink3URL: http://www.ti.com/lit/ds/symlink/ucd3138.pdf
footprint TI-RGC64-4250X4250TP_N (QFN, 64-Leads, Body 9x9mm, Pitch 0.5mm, Thermal Pad 4.25x4.25mm, IPC Medium Density)
pins: 1 P6.0/CB0/A0 (io), 2 P6.1/CB1/A1 (io), 3 P6.2/CB2/A2 (io), 4 P6.3/CB3/A3 (io), 5 P6.4/CB4/A4 (io), 6 P6.5/CB5/A5 (io), 7 P6.6/CB6/A6 (io), 8 P6.7/CB7/A7 (io), 9 P5.0/A8/VREF+/VEREF+ (io), 10 P5.1/A9/VREF-/VEREF- (io), 11 AVCC1 (power) "Analog power supply", 12 P5.4/XIN (io), 13 P5.5/XOUT (io), 14 AVSS1 (power) "Analog ground supply", 15 DVCC1 (power) "Digital power supply", 16 DVSS1 (power) "Digital ground supply", 17 VCORE "Regulated core power supply output (internal use only, no external current loading)", 18 P1.0/TA0CLK/ACLK (io), 19 P1.1/TA0.0 (io), 20 P1.2/TA0.1 (io), 21 P1.3/TA0.2 (io), 22 P1.4/TA0.3 (io), 23 P1.5/TA0.4 (io), 24 P1.6/TA1CLK/CBOUT (io), 25 P1.7/TA1.0 (io), 26 P2.0/TA1.1 (io), 27 P2.1/TA1.2 (io), 28 P2.2/TA2CLK/SMCLK (io), 29 P2.3/TA2.0 (io), 30 P2.4/TA2.1 (io), 31 P2.5/TA2.2 (io), 32 P2.6/RTCCLK/DMAE0 (io), 33 P2.7/UCB0STE/UCA0CLK (io), 34 P3.0/UCB0SIMO/UCB0SDA (io), 35 P3.1/UCB0SOMI/UCB0SCL (io), 36 P3.2/UCB0CLK/UCA0STE (io), 37 P3.3/UCA0TXD/UCA0SIMO (io), 38 P3.4/UCA0RXD/UCA0SOMI (io), 39 DVSS2 (power) "Digital ground supply", 40 DVCC2 (power) "Digital power supply", 41 P4.0/PM_UCB1STE/PM_UCA1CLK (io), 42 P4.1/PM_UCB1SIMO/PM_UCB1SDA (io), 43 P4.2/PM_UCB1SOMI/PM_UCB1SCL (io), 44 P4.3/PM_UCB1CLK/PM_UCA1STE (io), 45 P4.4/PM_UCA1TXD/PM_UCA1SIMO (io), 46 P4.5/PM_UCA1RXD/PM_UCA1SOMI (io), 47 P4.6/PM_NONE (io), 48 P4.7/PM_NONE (io), 49 VSSU (power) "USB PHY ground supply", 50 PU.0 (io) "General-purpose digital I/O - controlled by PU control register", 51 NC "No connect.", 52 PU.1 (io) "General-purpose digital I/O - controlled by PU control register", 53 LDOI (power) "LDO input", 54 LDOO (power) "LDO output", 55 NC "No connect.", 56 AVSS2 (power) "Analog ground supply", 57 P5.2/XT2IN (io), 58 P5.3/XT2OUT (io), 59 TEST/SBWTCK (in), 60 PJ.0/TDO (io), 61 PJ.1/TDI/TCLK (io), 62 PJ.2/TMS (io), 63 PJ.3/TCK (io), 64 ~{RST}/NMI/SBWTDIO (io), 65 QFN PAD (power) "QFN package pad connection to VSS recommended"

## MSP430F5328IRGCT
designator U?
25 MHz Mixed Signal Microcontroller with 128 KB Flash, 10240 B SRAM and 48 GPIOs, 64-pin QFN (RGC), Green (RoHS & no Sb/Br); Manufacturer: Texas Instruments; PartNumber: MSP430F5328IRGCT; ADC: 12-bit SAR; ADC Channels: 16; Brown Out Reset: Yes; DMA: 3; Flash(KB): 128; Frequency(MHz): 25; GPIO: 48; Multiplier: 32x32; SRAM(B): 10240; SubFamily: 5 Series; Timers - 16-bit: 4; USCI_A (UART/LIN/IrDA/SPI): 2; DatasheetVersion: SLAS678C; PackageVersion: 4204106/F; PackageReference: RGC64; PackageDescription: 64-Pin Plastic Flat Pack, Body 9 x 9 mm, Pitch 0.5 mm; Supplier 1: Digi-Key; Supplier Part Number 1: 296-29800-2-ND; Supplier 2: Digi-Key; Supplier Part Number 2: 296-29800-1-ND; Supplier 3: Digi-Key; Supplier Part Number 3: 296-29800-6-ND; Supplier 4: Newark; Supplier Part Number 4: 71T4225; Supplier 5: Mouser; Supplier Part Number 5: 595-MSP430F5328IRGCR; Comparators: Yes; Eco-Plan: Green (RoHS & no Sb/Br); Real-Time Clock: Yes; SVS: Yes; Temp Sensor: Yes; USCI_B (I2C & SPI): 2; Watchdog: Yes; Mounting Technology: Surface Mount; ComponentLink1Description: Manufacturer URL; ComponentLink1URL: http://www.ti.com/; ComponentLink2Description: Datasheet; ComponentLink2URL: http://www.ti.com/general/docs/lit/getliterature.tsp?genericPartNumber=MSP430F5328&fileType=pdf; ComponentLink3Description: Package Specification; ComponentLink3URL: http://www.ti.com/lit/ds/symlink/ucd3138.pdf
footprint TI-RGC64-4250X4250TP_N (QFN, 64-Leads, Body 9x9mm, Pitch 0.5mm, Thermal Pad 4.25x4.25mm, IPC Medium Density)
pins: 1 P6.0/CB0/A0 (io), 2 P6.1/CB1/A1 (io), 3 P6.2/CB2/A2 (io), 4 P6.3/CB3/A3 (io), 5 P6.4/CB4/A4 (io), 6 P6.5/CB5/A5 (io), 7 P6.6/CB6/A6 (io), 8 P6.7/CB7/A7 (io), 9 P5.0/A8/VREF+/VEREF+ (io), 10 P5.1/A9/VREF-/VEREF- (io), 11 AVCC1 (power) "Analog power supply", 12 P5.4/XIN (io), 13 P5.5/XOUT (io), 14 AVSS1 (power) "Analog ground supply", 15 DVCC1 (power) "Digital power supply", 16 DVSS1 (power) "Digital ground supply", 17 VCORE "Regulated core power supply output (internal use only, no external current loading)", 18 P1.0/TA0CLK/ACLK (io), 19 P1.1/TA0.0 (io), 20 P1.2/TA0.1 (io), 21 P1.3/TA0.2 (io), 22 P1.4/TA0.3 (io), 23 P1.5/TA0.4 (io), 24 P1.6/TA1CLK/CBOUT (io), 25 P1.7/TA1.0 (io), 26 P2.0/TA1.1 (io), 27 P2.1/TA1.2 (io), 28 P2.2/TA2CLK/SMCLK (io), 29 P2.3/TA2.0 (io), 30 P2.4/TA2.1 (io), 31 P2.5/TA2.2 (io), 32 P2.6/RTCCLK/DMAE0 (io), 33 P2.7/UCB0STE/UCA0CLK (io), 34 P3.0/UCB0SIMO/UCB0SDA (io), 35 P3.1/UCB0SOMI/UCB0SCL (io), 36 P3.2/UCB0CLK/UCA0STE (io), 37 P3.3/UCA0TXD/UCA0SIMO (io), 38 P3.4/UCA0RXD/UCA0SOMI (io), 39 DVSS2 (power) "Digital ground supply", 40 DVCC2 (power) "Digital power supply", 41 P4.0/PM_UCB1STE/PM_UCA1CLK (io), 42 P4.1/PM_UCB1SIMO/PM_UCB1SDA (io), 43 P4.2/PM_UCB1SOMI/PM_UCB1SCL (io), 44 P4.3/PM_UCB1CLK/PM_UCA1STE (io), 45 P4.4/PM_UCA1TXD/PM_UCA1SIMO (io), 46 P4.5/PM_UCA1RXD/PM_UCA1SOMI (io), 47 P4.6/PM_NONE (io), 48 P4.7/PM_NONE (io), 49 VSSU (power) "USB PHY ground supply", 50 PU.0 (io) "General-purpose digital I/O - controlled by PU control register", 51 NC "No connect.", 52 PU.1 (io) "General-purpose digital I/O - controlled by PU control register", 53 LDOI (power) "LDO input", 54 LDOO (power) "LDO output", 55 NC "No connect.", 56 AVSS2 (power) "Analog ground supply", 57 P5.2/XT2IN (io), 58 P5.3/XT2OUT (io), 59 TEST/SBWTCK (in), 60 PJ.0/TDO (io), 61 PJ.1/TDI/TCLK (io), 62 PJ.2/TMS (io), 63 PJ.3/TCK (io), 64 ~{RST}/NMI/SBWTDIO (io), 65 QFN PAD (power) "QFN package pad connection to VSS recommended"

## MSP430F5328IZQE
designator U?
25 MHz Mixed Signal Microcontroller with 128 KB Flash, 10240 B SRAM and 48 GPIOs, -40 to 85 degC, 80-pin BGA (ZQE), Green (RoHS & no Sb/Br); Manufacturer: Texas Instruments; PartNumber: MSP430F5328IZQE; ADC: 12-bit SAR; ADC Channels: 16; Brown Out Reset: Yes; DMA: 3; Flash(KB): 128; Frequency(MHz): 25; GPIO: 48; Multiplier: 32x32; SRAM(B): 10240; SubFamily: 5 Series; Timers - 16-bit: 4; USCI_A (UART/LIN/IrDA/SPI): 2; DatasheetVersion: SLAS678C; PackageVersion: 4204334-6/G; PackageReference: ZQE80; PackageDescription: 80-Pin Plastic Ball Grid Array, Body 5 x 5 mm, Pitch 0.5 mm; Supplier 1: Digi-Key; Supplier Part Number 1: 296-30060-2-ND; Supplier 2: Digi-Key; Supplier Part Number 2: 296-30060-1-ND; Supplier 3: Digi-Key; Supplier Part Number 3: 296-30060-6-ND; Supplier 4: Farnell; Supplier Part Number 4: 2072181; Supplier 5: Newark; Supplier Part Number 5: 74T4608; Supplier 6: Newark; Supplier Part Number 6: 76T0384; Supplier 7: Mouser; Supplier Part Number 7: 595-MSP430F5328IRGCT; Comparators: Yes; Eco-Plan: Green (RoHS & no Sb/Br); Real-Time Clock: Yes; SVS: Yes; Temp Sensor: Yes; USCI_B (I2C & SPI): 2; Watchdog: Yes; Mounting Technology: Surface Mount; Code_JEDEC: MO-225; ComponentLink1Description: Manufacturer URL; ComponentLink1URL: http://www.ti.com/; ComponentLink2Description: Datasheet; ComponentLink2URL: http://www.ti.com/general/docs/lit/getliterature.tsp?genericPartNumber=MSP430F5328&fileType=pdf; ComponentLink3Description: Package Specification; ComponentLink3URL: http://www.ti.com/litv/pdf/mpbg269e
footprint TI-ZQE80 (BGA, 80-Balls, Body 5x5mm, Pitch 0.5mm)
part A pins: A1 P6.0/CB0/A0 (io), A2 ~{RST}/NMI/SBWTDIO (io), A3 PJ.2/TMS (io), A4 TEST/SBWTCK (in), A5 AVSS2 (power) "Analog ground supply", A6 LDOO (power) "LDO output", A7 LDOI (power) "LDO input", A8 PU.1 (io) "General-purpose digital I/O - controlled by PU control register", A9 PU.0 (io) "General-purpose digital I/O - controlled by PU control register", B1 P6.2/CB2/A2 (io), B2 P6.1/CB1/A1 (io), B3 PJ.3/TCK (io), B4 P5.3/XT2OUT (io), B5 P5.2/XT2IN (io), B6 NC "No connect", B7 NC "No connect", B8 VSSU (power) "PU ground supply", B9 VSSU (power) "PU ground supply", C1 P6.4/CB4/A4 (io), C2 P6.3/CB3/A3 (io), C4 PJ.1/TDI/TCLK (io), C5 PJ.0/TDO (io), C7 P4.7/PM_NONE (io), C8 P4.6/PM_NONE (io), C9 P4.5/PM_UCA1RXD/PM_UCA1SOMI (io), D1 P6.6/CB6/A6 (io), D2 P6.5/CB5/A5 (io), D3 P6.7/CB7/A7 (io), D7 P4.4/PM_UCA1TXD/PM_UCA1SIMO (io), D8 P4.3/PM_UCB1CLK/PM_UCA1STE (io), D9 P4.2/PM_UCB1SOMI/PM_UCB1SCL (io), E1 P5.0/A8/VREF+/VEREF+ (io), E2 P5.1/A9/VREF-/VEREF- (io), E7 P4.1/PM_UCB1SIMO/PM_UCB1SDA (io), E8 P4.0/PM_UCB1STE/PM_UCA1CLK (io), E9 DVCC2 (power) "Digital power supply", F1 P5.4/XIN (io), F2 AVCC1 (power) "Analog power supply", F9 DVSS2 (power) "Digital ground supply", G1 P5.5/XOUT (io), G2 AVSS1 (power) "Analog ground supply", G4 P1.3/TA0.2 (io), G5 P1.6/TA1CLK/CBOUT (io), G6 P2.1/TA1.2 (io), G7 P3.4/UCA0RXD/UCA0SOMI (io), G8 P3.2/UCB0CLK/UCA0STE (io), G9 P3.3/UCA0TXD/UCA0SIMO (io), H1 DVCC1 (power) "Digital power supply", H2 P1.0/TA0CLK/ACLK (io), H3 P1.1/TA0.0 (io), H4 P1.4/TA0.3 (io), H5 P1.7/TA1.0 (io), H6 P2.3/TA2.0 (io), H7 P2.7/UCB0STE/UCA0CLK (io), H8 P3.0/UCB0SIMO/UCB0SDA (io), H9 P3.1/UCB0SOMI/UCB0SCL (io), J1 DVSS1 (power) "Digital ground supply", J2 VCORE "Regulated core power supply output (internal usage only, no external current loading)", J3 P1.2/TA0.1 (io), J4 P1.5/TA0.4 (io), J5 P2.0/TA1.1 (io), J6 P2.2/TA2CLK/SMCLK (io), J7 P2.4/TA2.1 (io), J8 P2.5/TA2.2 (io), J9 P2.6/RTCCLK/DMAE0 (io)
part B pins: C6 RESERVED "should be connected to ground.", D4 RESERVED "should be connected to ground.", D5 RESERVED "should be connected to ground.", D6 RESERVED "should be connected to ground.", E3 RESERVED "should be connected to ground.", E4 RESERVED "should be connected to ground.", E5 RESERVED "should be connected to ground.", E6 RESERVED "should be connected to ground.", F3 RESERVED "should be connected to ground.", F4 RESERVED "should be connected to ground.", F5 RESERVED "should be connected to ground.", F6 RESERVED "should be connected to ground.", F7 RESERVED "should be connected to ground.", F8 RESERVED "should be connected to ground.", G3 RESERVED "should be connected to ground."

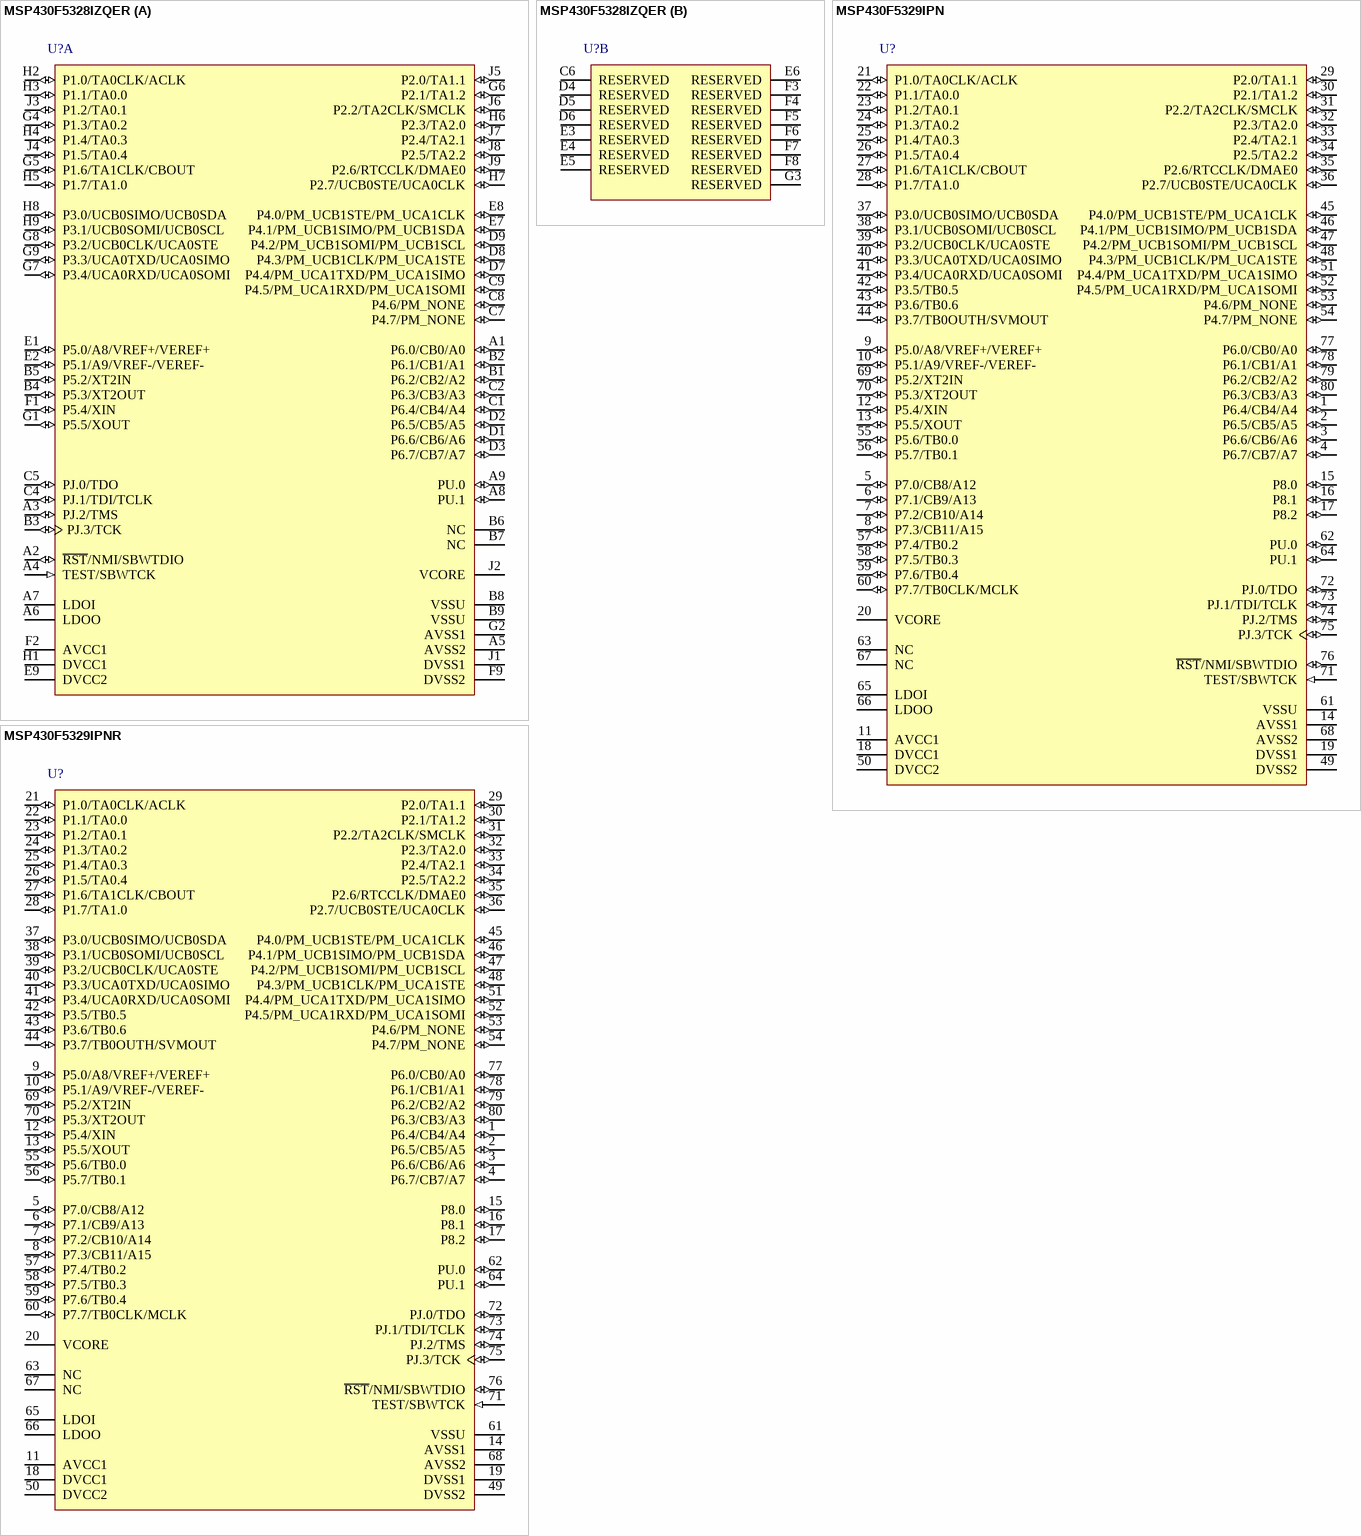
[diagram p101: symbols MSP430F5328IZQER to MSP430F5329IPNR]

## MSP430F5328IZQER
designator U?
25 MHz Mixed Signal Microcontroller with 128 KB Flash, 10240 B SRAM and 48 GPIOs, 80-pin BGA (ZQE), Green (RoHS & no Sb/Br); Manufacturer: Texas Instruments; PartNumber: MSP430F5328IZQER; ADC: 12-bit SAR; ADC Channels: 16; Brown Out Reset: Yes; DMA: 3; Flash(KB): 128; Frequency(MHz): 25; GPIO: 48; Multiplier: 32x32; SRAM(B): 10240; SubFamily: 5 Series; Timers - 16-bit: 4; USCI_A (UART/LIN/IrDA/SPI): 2; DatasheetVersion: SLAS678C; PackageVersion: 4204334-6/G; PackageReference: ZQE80; PackageDescription: 80-Pin Plastic Ball Grid Array, Body 5 x 5 mm, Pitch 0.5 mm; Supplier 1: Mouser; Supplier Part Number 1: N/A; Comparators: Yes; Eco-Plan: Green (RoHS & no Sb/Br); Real-Time Clock: Yes; SVS: Yes; Temp Sensor: Yes; USCI_B (I2C & SPI): 2; Watchdog: Yes; Mounting Technology: Surface Mount; Code_JEDEC: MO-225; ComponentLink1Description: Manufacturer URL; ComponentLink1URL: http://www.ti.com/; ComponentLink2Description: Datasheet; ComponentLink2URL: http://www.ti.com/general/docs/lit/getliterature.tsp?genericPartNumber=MSP430F5328&fileType=pdf; ComponentLink3Description: Package Specification; ComponentLink3URL: http://www.ti.com/litv/pdf/mpbg269e
footprint TI-ZQE80 (BGA, 80-Balls, Body 5x5mm, Pitch 0.5mm)
part A pins: A1 P6.0/CB0/A0 (io), A2 ~{RST}/NMI/SBWTDIO (io), A3 PJ.2/TMS (io), A4 TEST/SBWTCK (in), A5 AVSS2 (power) "Analog ground supply", A6 LDOO (power) "LDO output", A7 LDOI (power) "LDO input", A8 PU.1 (io) "General-purpose digital I/O - controlled by PU control register", A9 PU.0 (io) "General-purpose digital I/O - controlled by PU control register", B1 P6.2/CB2/A2 (io), B2 P6.1/CB1/A1 (io), B3 PJ.3/TCK (io), B4 P5.3/XT2OUT (io), B5 P5.2/XT2IN (io), B6 NC "No connect", B7 NC "No connect", B8 VSSU (power) "PU ground supply", B9 VSSU (power) "PU ground supply", C1 P6.4/CB4/A4 (io), C2 P6.3/CB3/A3 (io), C4 PJ.1/TDI/TCLK (io), C5 PJ.0/TDO (io), C7 P4.7/PM_NONE (io), C8 P4.6/PM_NONE (io), C9 P4.5/PM_UCA1RXD/PM_UCA1SOMI (io), D1 P6.6/CB6/A6 (io), D2 P6.5/CB5/A5 (io), D3 P6.7/CB7/A7 (io), D7 P4.4/PM_UCA1TXD/PM_UCA1SIMO (io), D8 P4.3/PM_UCB1CLK/PM_UCA1STE (io), D9 P4.2/PM_UCB1SOMI/PM_UCB1SCL (io), E1 P5.0/A8/VREF+/VEREF+ (io), E2 P5.1/A9/VREF-/VEREF- (io), E7 P4.1/PM_UCB1SIMO/PM_UCB1SDA (io), E8 P4.0/PM_UCB1STE/PM_UCA1CLK (io), E9 DVCC2 (power) "Digital power supply", F1 P5.4/XIN (io), F2 AVCC1 (power) "Analog power supply", F9 DVSS2 (power) "Digital ground supply", G1 P5.5/XOUT (io), G2 AVSS1 (power) "Analog ground supply", G4 P1.3/TA0.2 (io), G5 P1.6/TA1CLK/CBOUT (io), G6 P2.1/TA1.2 (io), G7 P3.4/UCA0RXD/UCA0SOMI (io), G8 P3.2/UCB0CLK/UCA0STE (io), G9 P3.3/UCA0TXD/UCA0SIMO (io), H1 DVCC1 (power) "Digital power supply", H2 P1.0/TA0CLK/ACLK (io), H3 P1.1/TA0.0 (io), H4 P1.4/TA0.3 (io), H5 P1.7/TA1.0 (io), H6 P2.3/TA2.0 (io), H7 P2.7/UCB0STE/UCA0CLK (io), H8 P3.0/UCB0SIMO/UCB0SDA (io), H9 P3.1/UCB0SOMI/UCB0SCL (io), J1 DVSS1 (power) "Digital ground supply", J2 VCORE "Regulated core power supply output (internal usage only, no external current loading)", J3 P1.2/TA0.1 (io), J4 P1.5/TA0.4 (io), J5 P2.0/TA1.1 (io), J6 P2.2/TA2CLK/SMCLK (io), J7 P2.4/TA2.1 (io), J8 P2.5/TA2.2 (io), J9 P2.6/RTCCLK/DMAE0 (io)
part B pins: C6 RESERVED "should be connected to ground.", D4 RESERVED "should be connected to ground.", D5 RESERVED "should be connected to ground.", D6 RESERVED "should be connected to ground.", E3 RESERVED "should be connected to ground.", E4 RESERVED "should be connected to ground.", E5 RESERVED "should be connected to ground.", E6 RESERVED "should be connected to ground.", F3 RESERVED "should be connected to ground.", F4 RESERVED "should be connected to ground.", F5 RESERVED "should be connected to ground.", F6 RESERVED "should be connected to ground.", F7 RESERVED "should be connected to ground.", F8 RESERVED "should be connected to ground.", G3 RESERVED "should be connected to ground."

## MSP430F5329IPN
designator U?
25 MHz Mixed Signal Microcontroller with 128 KB Flash, 10240 B SRAM and 63 GPIOs, -40 to 85 degC, 80-pin QFP (PN), Green (RoHS & no Sb/Br); Manufacturer: Texas Instruments; PartNumber: MSP430F5329IPN; ADC: 12-bit SAR; ADC Channels: 16; Brown Out Reset: Yes; DMA: 3; Flash(KB): 128; Frequency(MHz): 25; GPIO: 63; Multiplier: 32x32; SRAM(B): 10240; SubFamily: 5 Series; Timers - 16-bit: 4; USCI_A (UART/LIN/IrDA/SPI): 2; DatasheetVersion: SLAS678C; PackageReference: PN80; PackageDescription: 80-Pin Plastic Quad Flat Pack, Body 12 x 12 mm, Pitch 0.5 mm; Supplier 1: Digi-Key; Supplier Part Number 1: 296-29801-2-ND; Supplier 2: Digi-Key; Supplier Part Number 2: 296-29801-1-ND; Supplier 3: Digi-Key; Supplier Part Number 3: 296-29801-6-ND; Supplier 4: Newark; Supplier Part Number 4: 71T4226; Supplier 5: Mouser; Supplier Part Number 5: 595-MSP430F5328IZQER; Comparators: Yes; Eco-Plan: Green (RoHS & no Sb/Br); Real-Time Clock: Yes; SVS: Yes; Temp Sensor: Yes; USCI_B (I2C & SPI): 2; Watchdog: Yes; Mounting Technology: Surface Mount; Code_JEDEC: MS-018; ComponentLink1Description: Manufacturer URL; ComponentLink1URL: http://www.ti.com/; ComponentLink2Description: Datasheet; ComponentLink2URL: http://www.ti.com/general/docs/lit/getliterature.tsp?genericPartNumber=MSP430F5329&fileType=pdf; ComponentLink3Description: Package Specification; ComponentLink3URL: http://www.ti.com/lit/ml/mtqf010a/mtqf010a.pdf
footprint TI-PN80_N (QFP, 80-Leads, Body 12x12mm, Pitch 0.5mm, IPC Medium Density)
pins: 1 P6.4/CB4/A4 (io), 2 P6.5/CB5/A5 (io), 3 P6.6/CB6/A6 (io), 4 P6.7/CB7/A7 (io), 5 P7.0/CB8/A12 (io), 6 P7.1/CB9/A13 (io), 7 P7.2/CB10/A14 (io), 8 P7.3/CB11/A15 (io), 9 P5.0/A8/VREF+/VEREF+ (io), 10 P5.1/A9/VREF-/VEREF- (io), 11 AVCC1 (power) "Analog power supply", 12 P5.4/XIN (io), 13 P5.5/XOUT (io), 14 AVSS1 (power) "Analog ground supply", 15 P8.0 (io) "General-purpose digital I/O", 16 P8.1 (io) "General-purpose digital I/O", 17 P8.2 (io) "General-purpose digital I/O", 18 DVCC1 (power) "Digital power supply", 19 DVSS1 (power) "Digital ground supply", 20 VCORE "Regulated core power supply output (internal usage only, no external current loading)", 21 P1.0/TA0CLK/ACLK (io), 22 P1.1/TA0.0 (io), 23 P1.2/TA0.1 (io), 24 P1.3/TA0.2 (io), 25 P1.4/TA0.3 (io), 26 P1.5/TA0.4 (io), 27 P1.6/TA1CLK/CBOUT (io), 28 P1.7/TA1.0 (io), 29 P2.0/TA1.1 (io), 30 P2.1/TA1.2 (io), 31 P2.2/TA2CLK/SMCLK (io), 32 P2.3/TA2.0 (io), 33 P2.4/TA2.1 (io), 34 P2.5/TA2.2 (io), 35 P2.6/RTCCLK/DMAE0 (io), 36 P2.7/UCB0STE/UCA0CLK (io), 37 P3.0/UCB0SIMO/UCB0SDA (io), 38 P3.1/UCB0SOMI/UCB0SCL (io), 39 P3.2/UCB0CLK/UCA0STE (io), 40 P3.3/UCA0TXD/UCA0SIMO (io), 41 P3.4/UCA0RXD/UCA0SOMI (io), 42 P3.5/TB0.5 (io), 43 P3.6/TB0.6 (io), 44 P3.7/TB0OUTH/SVMOUT (io), 45 P4.0/PM_UCB1STE/PM_UCA1CLK (io), 46 P4.1/PM_UCB1SIMO/PM_UCB1SDA (io), 47 P4.2/PM_UCB1SOMI/PM_UCB1SCL (io), 48 P4.3/PM_UCB1CLK/PM_UCA1STE (io), 49 DVSS2 (power) "Digital ground supply", 50 DVCC2 (power) "Digital power supply", 51 P4.4/PM_UCA1TXD/PM_UCA1SIMO (io), 52 P4.5/PM_UCA1RXD/PM_UCA1SOMI (io), 53 P4.6/PM_NONE (io), 54 P4.7/PM_NONE (io), 55 P5.6/TB0.0 (io), 56 P5.7/TB0.1 (io), 57 P7.4/TB0.2 (io), 58 P7.5/TB0.3 (io), 59 P7.6/TB0.4 (io), 60 P7.7/TB0CLK/MCLK (io), 61 VSSU (power) "PU ground supply", 62 PU.0 (io) "General-purpose digital I/O - controlled by PU control register", 63 NC "No connect", 64 PU.1 (io) "General-purpose digital I/O - controlled by PU control register", 65 LDOI (power) "LDO input", 66 LDOO (power) "LDO output", 67 NC "No connect", 68 AVSS2 (power) "Analog ground supply", 69 P5.2/XT2IN (io), 70 P5.3/XT2OUT (io), 71 TEST/SBWTCK (in), 72 PJ.0/TDO (io), 73 PJ.1/TDI/TCLK (io), 74 PJ.2/TMS (io), 75 PJ.3/TCK (io), 76 ~{RST}/NMI/SBWTDIO (io), 77 P6.0/CB0/A0 (io), 78 P6.1/CB1/A1 (io), 79 P6.2/CB2/A2 (io), 80 P6.3/CB3/A3 (io)

## MSP430F5329IPNR
designator U?
25 MHz Mixed Signal Microcontroller with 128 KB Flash, 10240 B SRAM and 63 GPIOs, -40 to 85 degC, 80-pin QFP (PN), Green (RoHS & no Sb/Br); Manufacturer: Texas Instruments; PartNumber: MSP430F5329IPNR; ADC: 12-bit SAR; ADC Channels: 16; Brown Out Reset: Yes; DMA: 3; Flash(KB): 128; Frequency(MHz): 25; GPIO: 63; Multiplier: 32x32; SRAM(B): 10240; SubFamily: 5 Series; Timers - 16-bit: 4; USCI_A (UART/LIN/IrDA/SPI): 2; DatasheetVersion: SLAS678C; PackageReference: PN80; PackageDescription: 80-Pin Plastic Quad Flat Pack, Body 12 x 12 mm, Pitch 0.5 mm; Supplier 1: Mouser; Supplier Part Number 1: N/A; Comparators: Yes; Eco-Plan: Green (RoHS & no Sb/Br); Real-Time Clock: Yes; SVS: Yes; Temp Sensor: Yes; USCI_B (I2C & SPI): 2; Watchdog: Yes; Mounting Technology: Surface Mount; Code_JEDEC: MS-018; ComponentLink1Description: Manufacturer URL; ComponentLink1URL: http://www.ti.com/; ComponentLink2Description: Datasheet; ComponentLink2URL: http://www.ti.com/general/docs/lit/getliterature.tsp?genericPartNumber=MSP430F5329&fileType=pdf; ComponentLink3Description: Package Specification; ComponentLink3URL: http://www.ti.com/lit/ml/mtqf010a/mtqf010a.pdf
footprint TI-PN80_N (QFP, 80-Leads, Body 12x12mm, Pitch 0.5mm, IPC Medium Density)
pins: 1 P6.4/CB4/A4 (io), 2 P6.5/CB5/A5 (io), 3 P6.6/CB6/A6 (io), 4 P6.7/CB7/A7 (io), 5 P7.0/CB8/A12 (io), 6 P7.1/CB9/A13 (io), 7 P7.2/CB10/A14 (io), 8 P7.3/CB11/A15 (io), 9 P5.0/A8/VREF+/VEREF+ (io), 10 P5.1/A9/VREF-/VEREF- (io), 11 AVCC1 (power) "Analog power supply", 12 P5.4/XIN (io), 13 P5.5/XOUT (io), 14 AVSS1 (power) "Analog ground supply", 15 P8.0 (io) "General-purpose digital I/O", 16 P8.1 (io) "General-purpose digital I/O", 17 P8.2 (io) "General-purpose digital I/O", 18 DVCC1 (power) "Digital power supply", 19 DVSS1 (power) "Digital ground supply", 20 VCORE "Regulated core power supply output (internal usage only, no external current loading)", 21 P1.0/TA0CLK/ACLK (io), 22 P1.1/TA0.0 (io), 23 P1.2/TA0.1 (io), 24 P1.3/TA0.2 (io), 25 P1.4/TA0.3 (io), 26 P1.5/TA0.4 (io), 27 P1.6/TA1CLK/CBOUT (io), 28 P1.7/TA1.0 (io), 29 P2.0/TA1.1 (io), 30 P2.1/TA1.2 (io), 31 P2.2/TA2CLK/SMCLK (io), 32 P2.3/TA2.0 (io), 33 P2.4/TA2.1 (io), 34 P2.5/TA2.2 (io), 35 P2.6/RTCCLK/DMAE0 (io), 36 P2.7/UCB0STE/UCA0CLK (io), 37 P3.0/UCB0SIMO/UCB0SDA (io), 38 P3.1/UCB0SOMI/UCB0SCL (io), 39 P3.2/UCB0CLK/UCA0STE (io), 40 P3.3/UCA0TXD/UCA0SIMO (io), 41 P3.4/UCA0RXD/UCA0SOMI (io), 42 P3.5/TB0.5 (io), 43 P3.6/TB0.6 (io), 44 P3.7/TB0OUTH/SVMOUT (io), 45 P4.0/PM_UCB1STE/PM_UCA1CLK (io), 46 P4.1/PM_UCB1SIMO/PM_UCB1SDA (io), 47 P4.2/PM_UCB1SOMI/PM_UCB1SCL (io), 48 P4.3/PM_UCB1CLK/PM_UCA1STE (io), 49 DVSS2 (power) "Digital ground supply", 50 DVCC2 (power) "Digital power supply", 51 P4.4/PM_UCA1TXD/PM_UCA1SIMO (io), 52 P4.5/PM_UCA1RXD/PM_UCA1SOMI (io), 53 P4.6/PM_NONE (io), 54 P4.7/PM_NONE (io), 55 P5.6/TB0.0 (io), 56 P5.7/TB0.1 (io), 57 P7.4/TB0.2 (io), 58 P7.5/TB0.3 (io), 59 P7.6/TB0.4 (io), 60 P7.7/TB0CLK/MCLK (io), 61 VSSU (power) "PU ground supply", 62 PU.0 (io) "General-purpose digital I/O - controlled by PU control register", 63 NC "No connect", 64 PU.1 (io) "General-purpose digital I/O - controlled by PU control register", 65 LDOI (power) "LDO input", 66 LDOO (power) "LDO output", 67 NC "No connect", 68 AVSS2 (power) "Analog ground supply", 69 P5.2/XT2IN (io), 70 P5.3/XT2OUT (io), 71 TEST/SBWTCK (in), 72 PJ.0/TDO (io), 73 PJ.1/TDI/TCLK (io), 74 PJ.2/TMS (io), 75 PJ.3/TCK (io), 76 ~{RST}/NMI/SBWTDIO (io), 77 P6.0/CB0/A0 (io), 78 P6.1/CB1/A1 (io), 79 P6.2/CB2/A2 (io), 80 P6.3/CB3/A3 (io)

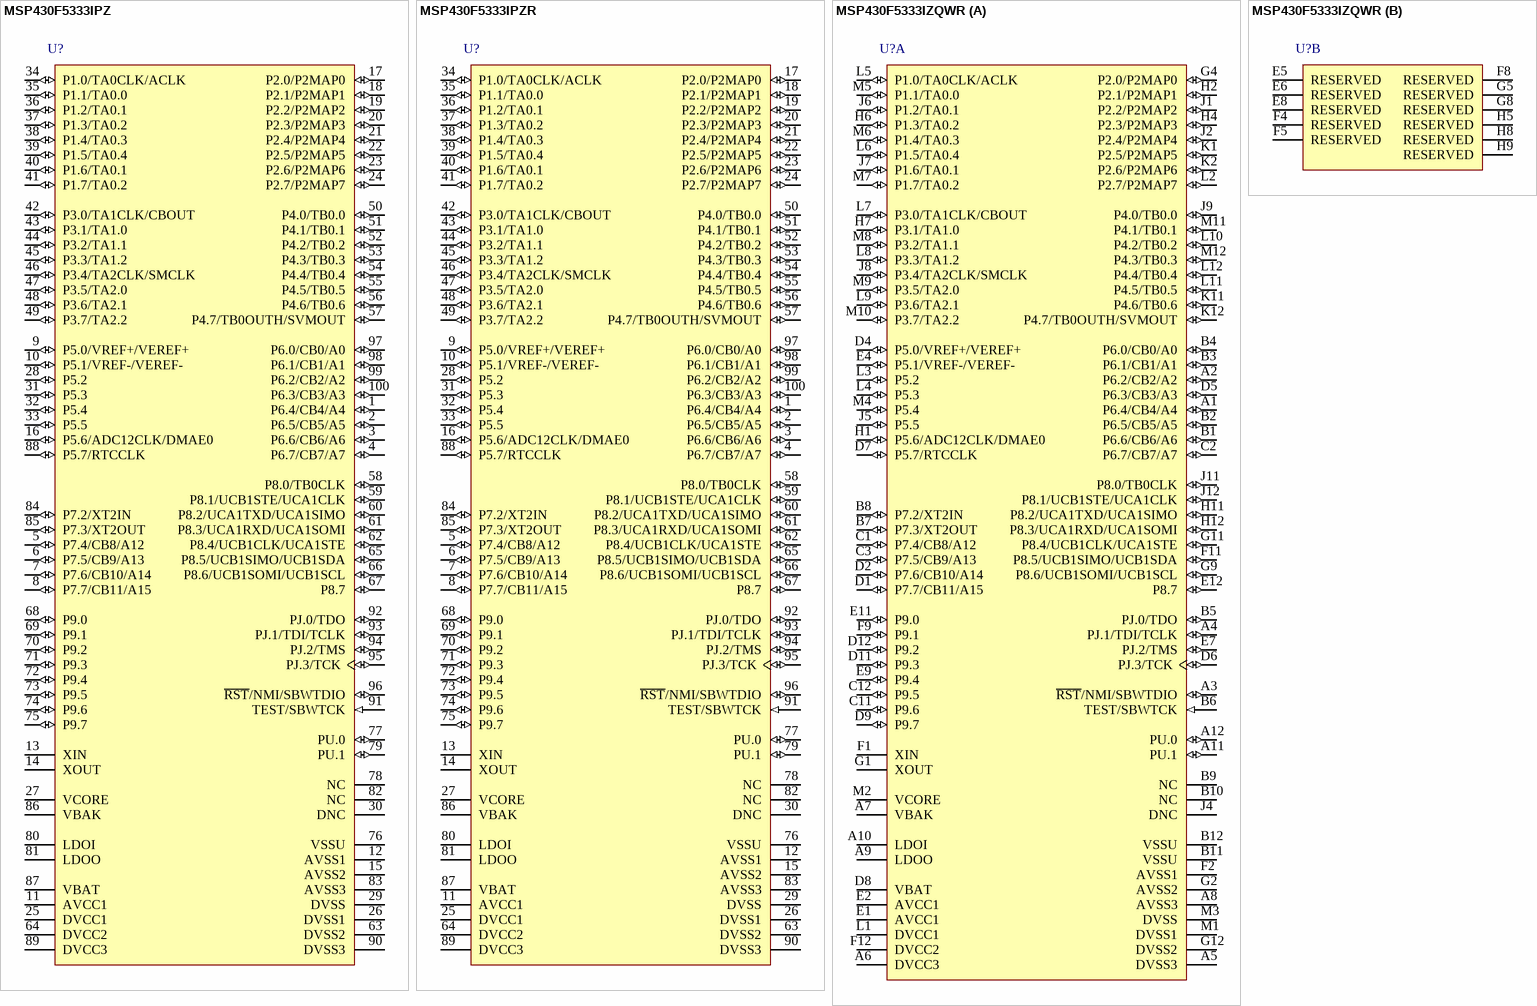
[diagram p102: symbols MSP430F5333IPZ to MSP430F5333IZQWR]